# Altium schematic symbol library Buzzer.SchLib: 2 symbols
Pins are listed as number, name and electrical type; pins without a type are passive.

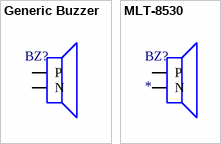
[diagram p0: symbols Generic Buzzer to MLT-8530]

## Generic Buzzer
designator BZ?  (value not drawn)
Buzzer; Manufacturer: Generic Brand; Max Voltage: ? V; Resonance Frequency: ? Hz; Category: Buzzer; Mounting Technology: THT; Supplier Link: http://
footprint HEADER-2.54-2P1 (Pin Header Single Row 2 Positions Pitch 2.54 mm); pin to pad N>2 P>1
pins: N (power), P (power)

## MLT-8530
designator BZ?
Magnetic Buzzer SMD 8.5x3.3 Passive 2.5V~4.5V; Manufacturer: Jiangsu Huaneng Elec; Rated Voltage: 3.6 V; Resonant Frequency: 2700 Hz; Supplier Link: https://www.lcsc.com/mobile/product-detail/Buzzers_Jiangsu-Huaneng-Elec-MLT-8530_C94599.html; Supplier: LCSC; Alternative Supplier Link: https://www.aliexpress.ru/item/1005003620291811.html; Mounting Technology: SMT; Category: Buzzer
footprint MLT-8530
pins: N (power), P (power)